# Altium footprint library JE.PcbLib: 1 footprints
Each footprint in its own frame and in the unit in brackets; x right, y up, seen from the top. Pads: shape width x height; smd on the part's side, far side on the other; paste and mask are expansions set on the pad; w line width, h text height; cw(c..) or ccw(c..) is an arc to the next point about the centre after c.
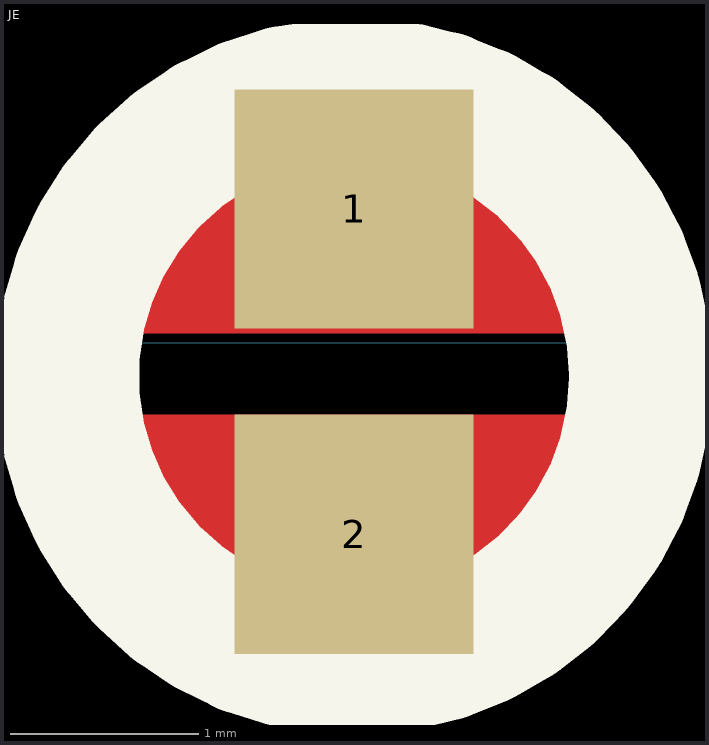
[diagram p0: the footprint, top view; thin cyan lines are the x and y axes]

## JE [mil]
pads (2):
  rect 50x50 smd: 1(324,28) 2(324,-40)
Top Layer:
  region: 372,7 372.13,13.93 368.76,27.38 361.98,39.47 352.28,49.37 340.32,56.38 326.94,60.01 313.08,60.01 299.7,56.38 287.74,49.38 278.03,39.48 271.25,27.39 267.87,13.95 268,7.02 268.02,7
  region: 269,-20 268.87,-26.93 272.24,-40.38 279.02,-52.47 288.72,-62.37 300.68,-69.38 314.06,-73.01 327.92,-73.01 341.3,-69.38 353.26,-62.38 362.97,-52.48 369.75,-40.39 373.13,-26.95 373,-20.02 372.98,-20
  lines w10: 268,7.02 cw(c320,8) 372,7 268.02,7 ; 268,7.02 268.02,7 ; 373,-20.02 cw(c321,-21) 269,-20 372.98,-20 ; 372.98,-20 373,-20.02
Top Overlay:
  circle w30: c324,-7 r60